# Altium footprint library PcbLib1.PcbLib: 2 footprints
Each footprint in its own frame and in the unit in brackets; x right, y up, seen from the top. Pads: shape width x height; smd on the part's side, far side on the other; paste and mask are expansions set on the pad; w line width, h text height; cw(c..) or ccw(c..) is an arc to the next point about the centre after c.
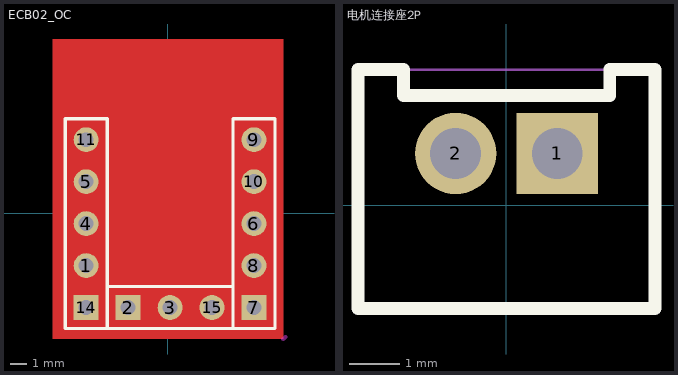
[diagram p0: the footprints below, top view; thin cyan lines are the x and y axes]

## ECB02_OC [mm] "易加蓝牙单片机"
pads (13):
  round 1.5 hole 0.9: 1(-4.953,-3.175) 3(0.127,-5.715) 4(-4.953,-0.635) 5(-4.953,1.905) 6(5.207,-0.635) 8(5.207,-3.175) 9(5.207,4.445) 10(5.207,1.905) 11(-4.953,4.445) 15(2.667,-5.715)
  rect 1.5x1.5 hole 0.9: 2(-2.413,-5.715) 7(5.207,-5.715) 14(-4.953,-5.715)
Top Layer:
  rectangle: -6.985,-7.62 6.985,10.541
Top Layer keep-out:
  lines w0.254: 6.985,-7.62 7.112,-7.493
Top Overlay:
  lines w0.2: -3.683,-6.985 3.937,-6.985 ; -3.683,-6.985 -3.683,-4.445 3.937,-4.445 3.937,-6.985 ; -3.683,-6.985 -6.223,-6.985 -6.223,5.715 -3.683,5.715 -3.683,-6.985 ; 3.937,-6.985 6.477,-6.985 6.477,5.715 3.937,5.715 3.937,-6.985

## 电机连接座2P [mm]
pads (2):
  rect 1.6x1.6 hole 1 mask+0.051: 1(1,1.016)
  round 1.6 hole 1 mask+0.051: 2(-1,1.016)
Top Overlay:
  lines w0.254: -2.921,-2.032 2.921,-2.032 2.921,2.667 2.032,2.667 2.032,2.159 -2.025,2.159 -2.025,2.667 -2.921,2.667 -2.921,-2.032
Mechanical 15:
  region: -0.6,1.016 -0.6,1.096 -0.661,1.243 -0.773,1.355 -0.92,1.416 -1.08,1.416 -1.227,1.355 -1.339,1.243 -1.4,1.096 -1.4,1.016 -1.4,0.936 -1.339,0.789 -1.227,0.677 -1.08,0.616 -0.92,0.616 -0.773,0.677 -0.661,0.789 -0.6,0.936
  region: 1.4,1.016 1.4,1.096 1.339,1.243 1.227,1.355 1.08,1.416 0.92,1.416 0.773,1.355 0.661,1.243 0.6,1.096 0.6,1.016 0.6,0.936 0.661,0.789 0.773,0.677 0.92,0.616 1.08,0.616 1.227,0.677 1.339,0.789 1.4,0.936
  region: 2.981,2.54 2.981,2.565 2.946,2.6 2.896,2.6 2.861,2.565 2.861,2.54 2.861,2.515 2.896,2.48 2.946,2.48 2.981,2.515
  lines w0.051: -2.921,-2.032 -2.921,2.667 2.921,2.667 2.921,-2.032 -2.921,-2.032